# EAGLE library part TPS65263 (library 1zac)
Triple Buck 4.5V to 18V Input Voltage, 3A/2A/2A
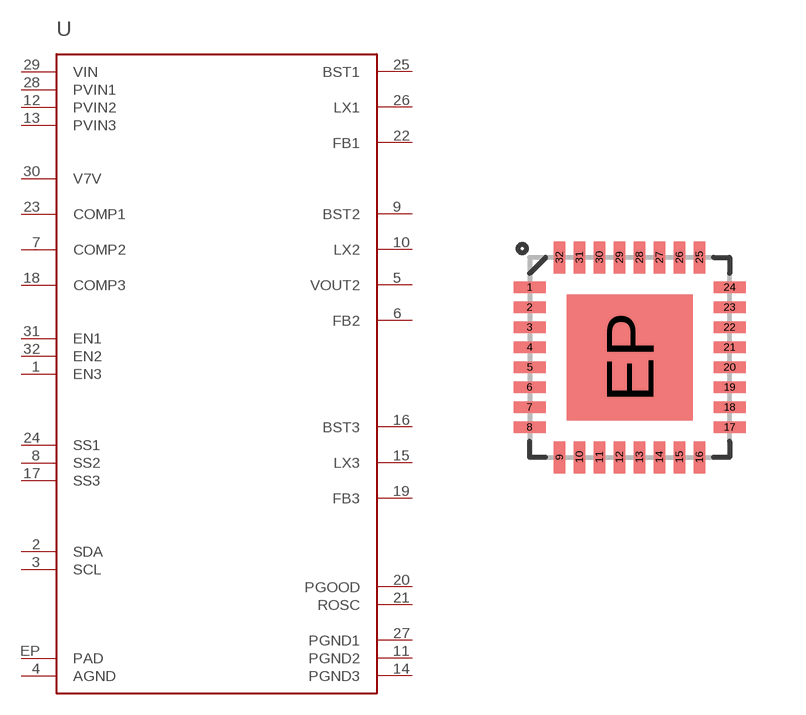
[diagram p5: symbol with the pads of QFN-32-5X5; footprint QFN-32-5X5]

Designator prefix -

## TPS65263  [QFN-32-5X5]
1  EN3
2  SDA
3  SCL
4  AGND
5  VOUT2
6  FB2
7  COMP2
8  SS2
9  BST2
10  LX2
11  PGND2
12  PVIN2
13  PVIN3
14  PGND3
15  LX3
16  BST3
17  SS3
18  COMP3
19  FB3
20  PGOOD
21  ROSC
22  FB1
23  COMP1
24  SS1
25  BST1
26  LX1
27  PGND1
28  PVIN1
29  VIN
30  V7V
31  EN1
32  EN2
EP  PAD

## Footprint QFN-32-5X5 (pad centres in mm)
smd 0.8 x 0.285: 1 -2.6,1.65; 2 -2.6,1.15; 3 -2.6,0.65; 4 -2.6,0.15; 5 -2.6,-0.35; 6 -2.6,-0.85; 7 -2.6,-1.35; 8 -2.6,-1.85; 17 2.4,-1.85; 18 2.4,-1.35; 19 2.4,-0.85; 20 2.4,-0.35; 21 2.4,0.15; 22 2.4,0.65; 23 2.4,1.15; 24 2.4,1.65
smd 0.285 x 0.8: 9 -1.85,-2.6; 10 -1.35,-2.6; 11 -0.85,-2.6; 12 -0.35,-2.6; 13 0.15,-2.6; 14 0.65,-2.6; 15 1.15,-2.6; 16 1.65,-2.6; 25 1.65,2.4; 26 1.15,2.4; 27 0.65,2.4; 28 0.15,2.4; 29 -0.35,2.4; 30 -0.85,2.4; 31 -1.35,2.4; 32 -1.85,2.4
smd 3.15 x 3.15: EP -0.1,-0.1